# EAGLE library part LTC4155EUFD#PBF (library LTC4155EUFD_PBF)
Check availability <https://pricing.snapeda.com/parts/LTC4155EUFD%23PBF/Analog%20Devices/view-part?ref=eda>
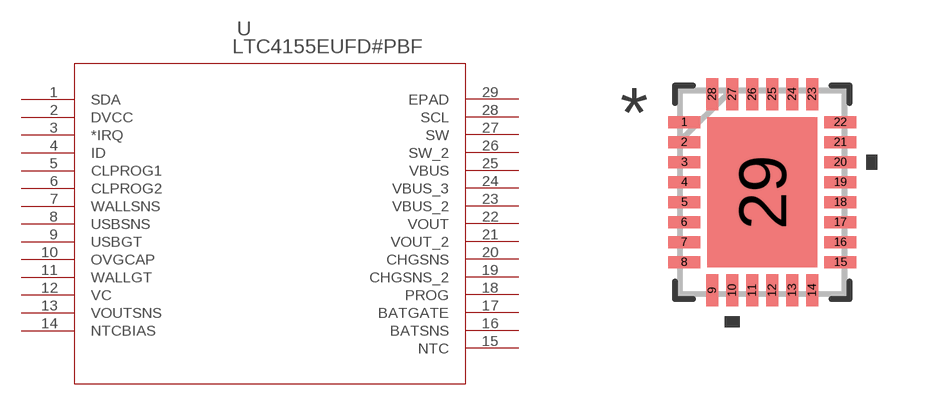
[diagram p0: symbol with the pads of QFN-28_UFD; footprint QFN-28_UFD]

Designator prefix U

## LTC4155EUFD#PBF (Availability: In Stock; Check_prices: https://www.snapeda.com/parts/LTC4155EUFD%23PBF/Analog+Devices/view-part/?ref=eda; Description: PMU/CHARGER, 3.5A LI-ION, I2C, 28QFN; Battery Type:Lithium Ion, Lithium Polymer; Battery Charge Voltage:4.05V; Charge Current Max:3.5A; Battery IC Case Style:QFN; No. of Pins:28; No. of Series Cells:1; Operating Temperature Range:-40°C to +125°C; SVHC:No SVHC (18-Jun-2012); Input Voltage:5.5V; MF: Analog Devices; MP: LTC4155EUFD#PBF; Package: QFN -28 Analog Devices; Price: None; Purchase-URL: https://www.snapeda.com/api/url_track_click_mouser/?unipart_id=508814&manufacturer=Analog Devices&part_name=LTC4155EUFD#PBF&search_term=lithium ion polymer battery; SnapEDA_Link: https://www.snapeda.com/parts/LTC4155EUFD%23PBF/Analog+Devices/view-part/?ref=snap)  [QFN-28_UFD]
1  SDA
2  DVCC  pwr
3  *IRQ  out
4  ID  pas
5  CLPROG1  pas
6  CLPROG2  pas
7  WALLSNS  in
8  USBSNS  in
9  USBGT  out
10  OVGCAP  out
11  WALLGT  out
12  VC  pas
13  VOUTSNS
14  NTCBIAS  out
15  NTC  in
16  BATSNS  in
17  BATGATE  out
18  PROG  pas
19  CHGSNS_2  pas
20  CHGSNS  pas
21  VOUT_2  out
22  VOUT  out
23  VBUS_2
24  VBUS_3
25  VBUS
26  SW_2  pas
27  SW  pas
28  SCL  in
29  EPAD  pas

## Footprint QFN-28_UFD (pad centres in mm)
smd 0.805 x 0.3: 1 -1.952,1.75; 2 -1.952,1.25; 3 -1.952,0.75; 4 -1.952,0.25; 5 -1.952,-0.25; 6 -1.952,-0.75; 7 -1.952,-1.25; 8 -1.952,-1.75; 15 1.952,-1.75; 16 1.952,-1.25; 17 1.952,-0.75; 18 1.952,-0.25; 19 1.952,0.25; 20 1.952,0.75; 21 1.952,1.25; 22 1.952,1.75
smd 0.3 x 0.805: 9 -1.25,-2.452; 10 -0.75,-2.452; 11 -0.25,-2.452; 12 0.25,-2.452; 13 0.75,-2.452; 14 1.25,-2.452; 23 1.25,2.452; 24 0.75,2.452; 25 0.25,2.452; 26 -0.25,2.452; 27 -0.75,2.452; 28 -1.25,2.452
smd 2.75 x 3.75: 29 0,0